# EAGLE library part HV5182 (library taki-library)
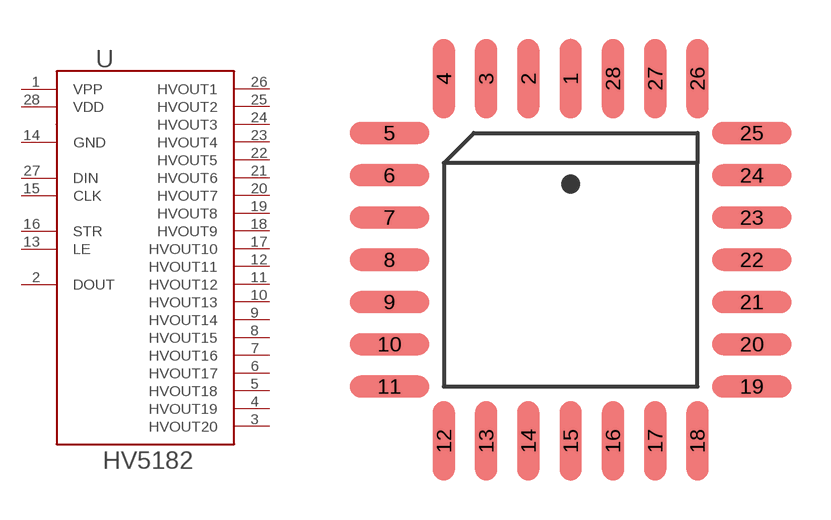
[diagram p13: symbol with the pads of PLCC-28; footprint PLCC-28]

Designator prefix U

## HV5182  [PLCC-28]
1  VPP
2  DOUT
3  HVOUT20
4  HVOUT19
5  HVOUT18
6  HVOUT17
7  HVOUT16
8  HVOUT15
9  HVOUT14
10  HVOUT13
11  HVOUT12
12  HVOUT11
13  LE
14  GND
15  CLK
16  STR
17  HVOUT10
18  HVOUT9
19  HVOUT8
20  HVOUT7
21  HVOUT6
22  HVOUT5
23  HVOUT4
24  HVOUT3
25  HVOUT2
26  HVOUT1
27  DIN
28  VDD

## Footprint PLCC-28 (pad centres in mm)
smd 0.66 x 2.388: 1 0,0; 2 -1.27,0; 3 -2.54,0; 4 -3.81,0; 12 -3.81,-10.897; 13 -2.54,-10.897; 14 -1.27,-10.897; 15 0,-10.897; 16 1.27,-10.897; 17 2.54,-10.897; 18 3.81,-10.897; 26 3.81,0; 27 2.54,0; 28 1.27,0
smd 2.388 x 0.66: 5 -5.448,-1.638; 6 -5.448,-2.908; 7 -5.448,-4.178; 8 -5.448,-5.448; 9 -5.448,-6.718; 10 -5.448,-7.988; 11 -5.448,-9.258; 19 5.448,-9.258; 20 5.448,-7.988; 21 5.448,-6.718; 22 5.448,-5.448; 23 5.448,-4.178; 24 5.448,-2.908; 25 5.448,-1.638